# EAGLE library part STM32DEVBOARD (library stm)
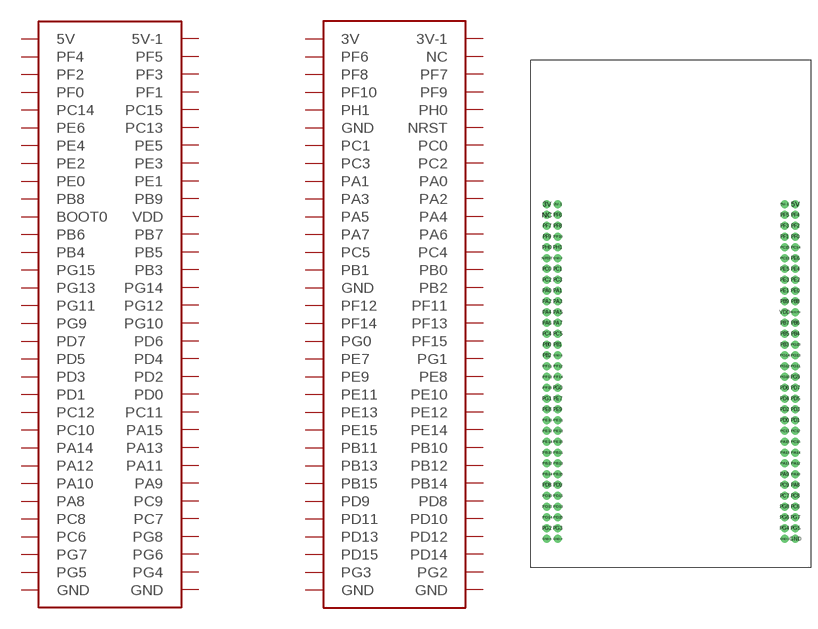
[diagram p0: symbol with the pads of STM32DEVBOARD; footprint STM32DEVBOARD]

Designator prefix -

## STM32DEVBOARD  [STM32DEVBOARD]
3V  3V  pas
3V-1  3V-1  pas
5V  5V  pas
5V-1  5V-1  pas
BOOT0  BOOT0  pas
GND  GND  pas
GND-1  GND-1  pas
GND-2  GND-2  pas
GND-3  GND-3  pas
GND-4  GND-4  pas
GND-5  GND-5  pas
NC  NC  pas
NRST  NRST  pas
PA0  PA0  pas
PA1  PA1  pas
PA2  PA2  pas
PA3  PA3  pas
PA4  PA4  pas
PA5  PA5  pas
PA6  PA6  pas
PA7  PA7  pas
PA8  PA8  pas
PA9  PA9  pas
PA10  PA10  pas
PA11  PA11  pas
PA12  PA12  pas
PA13  PA13  pas
PA14  PA14  pas
PA15  PA15  pas
PB0  PB0  pas
PB1  PB1  pas
PB2  PB2  pas
PB3  PB3  pas
PB4  PB4  pas
PB5  PB5  pas
PB6  PB6  pas
PB7  PB7  pas
PB8  PB8  pas
PB9  PB9  pas
PB10  PB10  pas
PB11  PB11  pas
PB12  PB12  pas
PB13  PB13  pas
PB14  PB14  pas
PB15  PB15  pas
PC0  PC0  pas
PC1  PC1  pas
PC2  PC2  pas
PC3  PC3  pas
PC4  PC4  pas
PC5  PC5  pas
PC6  PC6  pas
PC7  PC7  pas
PC8  PC8  pas
PC9  PC9  pas
PC10  PC10  pas
PC11  PC11  pas
PC12  PC12  pas
PC13  PC13  pas
PC14  PC14  pas
PC15  PC15  pas
PD0  PD0  pas
PD1  PD1  pas
PD2  PD2  pas
PD3  PD3  pas
PD4  PD4  pas
PD5  PD5  pas
PD6  PD6  pas
PD7  PD7  pas
PD8  PD8  pas
PD9  PD9  pas
PD10  PD10  pas
PD11  PD11  pas
PD12  PD12  pas
PD13  PD13  pas
PD14  PD14  pas
PD15  PD15  pas
PE0  PE0  pas
PE1  PE1  pas
PE2  PE2  pas
PE3  PE3  pas
PE4  PE4  pas
PE5  PE5  pas
PE6  PE6  pas
PE7  PE7  pas
PE8  PE8  pas
PE9  PE9  pas
PE10  PE10  pas
PE11  PE11  pas
PE12  PE12  pas
PE13  PE13  pas
PE14  PE14  pas
PE15  PE15  pas
PF0  PF0  pas
PF1  PF1  pas
PF2  PF2  pas
PF3  PF3  pas
PF4  PF4  pas
PF5  PF5  pas
PF6  PF6  pas
PF7  PF7  pas
PF8  PF8  pas
PF9  PF9  pas
PF10  PF10  pas
PF11  PF11  pas
PF12  PF12  pas
PF13  PF13  pas
PF14  PF14  pas
PF15  PF15  pas
PG0  PG0  pas
PG1  PG1  pas
PG2  PG2  pas
PG3  PG3  pas
PG4  PG4  pas
PG5  PG5  pas
PG6  PG6  pas
PG7  PG7  pas
PG8  PG8  pas
PG9  PG9  pas
PG10  PG10  pas
PG11  PG11  pas
PG12  PG12  pas
PG13  PG13  pas
PG14  PG14  pas
PG15  PG15  pas
PH0  PH0  pas
PH1  PH1  pas
VDD  VDD  pas

## Footprint STM32DEVBOARD (pad centres in mm)
drill 1.06 pad 1.88: 3V -29.21,39.37; 3V-1 -26.67,39.37; 5V 29.21,39.37; 5V-1 26.67,39.37; BOOT0 29.21,13.97; GND 29.21,-39.37; GND-1 26.67,-39.37; GND-2 -26.67,26.67; GND-3 -26.67,3.81; GND-4 -26.67,-39.37; GND-5 -29.21,-39.37; NC -29.21,36.83; NRST -29.21,26.67; PA0 -29.21,19.05; PA1 -26.67,19.05; PA2 -29.21,16.51; PA3 -26.67,16.51; PA4 -29.21,13.97; PA5 -26.67,13.97; PA6 -29.21,11.43; PA7 -26.67,11.43; PA8 29.21,-26.67; PA9 26.67,-24.13; PA10 29.21,-24.13; PA11 26.67,-21.59; PA12 29.21,-21.59; PA13 26.67,-19.05; PA14 29.21,-19.05; PA15 26.67,-16.51; PB0 -29.21,6.35; PB1 -26.67,6.35; PB2 -29.21,3.81; PB3 26.67,6.35; PB4 29.21,8.89; PB5 26.67,8.89; PB6 29.21,11.43; PB7 26.67,11.43; PB8 29.21,16.51; PB9 26.67,16.51; PB10 -29.21,-19.05; PB11 -26.67,-19.05; PB12 -29.21,-21.59; PB13 -26.67,-21.59; PB14 -29.21,-24.13; PB15 -26.67,-24.13; PC0 -29.21,24.13; PC1 -26.67,24.13; PC2 -29.21,21.59; PC3 -26.67,21.59; PC4 -29.21,8.89; PC5 -26.67,8.89; PC6 29.21,-31.75; PC7 26.67,-29.21; PC8 29.21,-29.21; PC9 26.67,-26.67; PC10 29.21,-16.51; PC11 26.67,-13.97; PC12 29.21,-13.97; PC13 26.67,26.67; PC14 29.21,29.21; PC15 26.67,29.21; PD0 26.67,-11.43; PD1 29.21,-11.43; PD2 26.67,-8.89; PD3 29.21,-8.89; PD4 26.67,-6.35; PD5 29.21,-6.35; PD6 26.67,-3.81; PD7 29.21,-3.81; PD8 -29.21,-26.67; PD9 -26.67,-26.67; PD10 -29.21,-29.21; PD11 -26.67,-29.21; PD12 -29.21,-31.75; PD13 -26.67,-31.75; PD14 -29.21,-34.29; PD15 -26.67,-34.29; PE0 29.21,19.05; PE1 26.67,19.05; PE2 29.21,21.59; PE3 26.67,21.59; PE4 29.21,24.13; PE5 26.67,24.13; PE6 29.21,26.67; PE7 -26.67,-6.35; PE8 -29.21,-8.89; PE9 -26.67,-8.89; PE10 -29.21,-11.43; PE11 -26.67,-11.43; PE12 -29.21,-13.97; PE13 -26.67,-13.97; PE14 -29.21,-16.51; PE15 -26.67,-16.51; PF0 29.21,31.75; PF1 26.67,31.75; PF2 29.21,34.29; PF3 26.67,34.29; PF4 29.21,36.83; PF5 26.67,36.83; PF6 -26.67,36.83; PF7 -29.21,34.29; PF8 -26.67,34.29; PF9 -29.21,31.75; PF10 -26.67,31.75; PF11 -29.21,1.27; PF12 -26.67,1.27; PF13 -29.21,-1.27; PF14 -26.67,-1.27; PF15 -29.21,-3.81; PG0 -26.67,-3.81; PG1 -29.21,-6.35; PG2 -29.21,-36.83; PG3 -26.67,-36.83; PG4 26.67,-36.83; PG5 29.21,-36.83; PG6 26.67,-34.29; PG7 29.21,-34.29; PG8 26.67,-31.75; PG9 29.21,-1.27; PG10 26.67,-1.27; PG11 29.21,1.27; PG12 26.67,1.27; PG13 29.21,3.81; PG14 26.67,3.81; PG15 29.21,6.35; PH0 -29.21,29.21; PH1 -26.67,29.21; VDD 26.67,13.97